# EAGLE library part MOSFET-PAIR-PN (library semis)
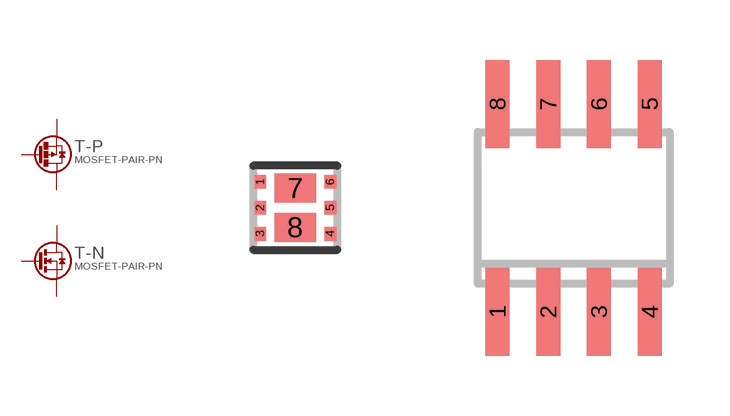
[diagram p1: symbol with the pads of SOT1118; footprints SOT1118, SO8]

Designator prefix T; gates -N=MOSFET-N -P=MOSFET-P

## MOSFET-PAIR-PN-SOT1118  [SOT1118]
1  -N:S  pas
2  -N:G  pas
3  -P:D  pas
4  -P:S  pas
5  -P:G  pas
6  -N:D  pas
7  -N:D  pas
8  -P:D  pas

## MOSFET-PAIR-PN-SO8  [SO8]
1  -N:S  pas
2  -N:G  pas
3  -P:S  pas
4  -P:G  pas
5  -P:D  pas
6  -P:D  pas
7  -N:D  pas
8  -N:D  pas

## Footprint SOT1118 (pad centres in mm)
AKA DFN2020-6 Based on NXP - SOT1118 - DFN2020-6 - plastic thermal enhanced ultra thin small outline package; no leads; 6 terminals; body 2 x 2 x 0.65 mm
smd 0.3 x 0.35: 1 -0.875,0.65; 2 -0.875,0; 3 -0.875,-0.65; 4 0.875,-0.65; 5 0.875,0; 6 0.875,0.65
smd 1.05 x 0.72: 7 0,0.49; 8 0,-0.49

## Footprint SO8 (pad centres in mm)
Small Outline Narrow Plastic Gull Wing 150-mil body, package type SN
smd 0.6 x 2.2: 1 -1.905,-2.6; 2 -0.635,-2.6; 3 0.635,-2.6; 4 1.905,-2.6; 5 1.905,2.6; 6 0.635,2.6; 7 -0.635,2.6; 8 -1.905,2.6